# Altium footprint library VCB20.PcbLib: 5 footprints
Each footprint in its own frame and in the unit in brackets; x right, y up, seen from the top. Pads: shape width x height; smd on the part's side, far side on the other; paste and mask are expansions set on the pad; w line width, h text height; cw(c..) or ccw(c..) is an arc to the next point about the centre after c.
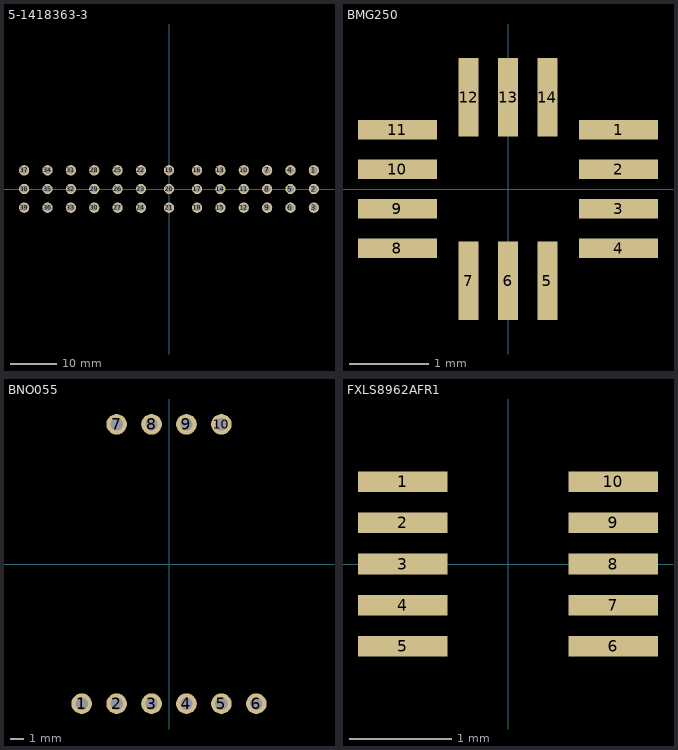
[diagram p0: the footprints below, top view; thin cyan lines are the x and y axes]

## 5-1418363-3 [mm] "Levyseal 90 degree 39 pin header"
pads (39):
  round 2.2 hole 1.5: 1(31,4) 2(31,0) 3(31,-4) 4(26,4) 5(26,0) 6(26,-4) 7(21,4) 8(21,0) 9(21,-4) 10(16,4) 11(16,0) 12(16,-4) 13(11,4) 14(11,0) 15(11,-4) 16(6,4) 17(6,0) 18(6,-4) 19(0,4) 20(0,0) 21(0,-4) 22(-6,4) 23(-6,0) 24(-6,-4) 25(-11,4) 26(-11,0) 27(-11,-4) 28(-16,4) 29(-16,0) 30(-16,-4) 31(-21,4) 32(-21,0) 33(-21,-4) 34(-26,4) 35(-26,0) 36(-26,-4) 37(-31,4) 38(-31,0) 39(-31,-4)
via -51.5,-4 diameter 4 hole 3.5
via 51.5,-4 diameter 4 hole 3.5
via -45,-4 diameter 3.5 hole 3
via 45,-4 diameter 3.5 hole 3
3D body "c-5-1418363-3-c-3d.stp": height 37, standoff -11, extent -66,-47.4 66,10.4

## BMG250 [mm] "Gyroscope, 3axis"
pads (14):
  rect 1x0.25 smd: 1(1.4,0.75) 2(1.4,0.25) 3(1.4,-0.25) 4(1.4,-0.75) 8(-1.4,-0.75) 9(-1.4,-0.25) 10(-1.4,0.25) 11(-1.4,0.75)
  rect 0.25x1 smd: 5(0.5,-1.162) 6(0,-1.162) 7(-0.5,-1.162) 12(-0.5,1.162) 13(0,1.162) 14(0.5,1.162)
3D body: height 0.9, standoff 0, extent -1.5,-1.25 1.5,1.25

## BNO055 [mm] "Adafruit Breakout"
pads (10):
  round 1.5 hole 0.9: 1(-6.35,-10.16) 2(-3.81,-10.16) 3(-1.27,-10.16) 4(1.27,-10.16) 5(3.81,-10.16) 6(6.35,-10.16) 7(-3.81,10.16) 8(-1.27,10.16) 9(1.27,10.16) 10(3.81,10.16)
3D body: height 5.08, standoff 2.54, extent -12.7,-11.43 12.7,11.43

## FXLS8962AFR1 [mm] "Accelerometer"
pads (10):
  rect 0.875x0.2 smd: 1(-1.025,0.8) 2(-1.025,0.4) 3(-1.025,0) 4(-1.025,-0.4) 5(-1.025,-0.8) 6(1.025,-0.8) 7(1.025,-0.4) 8(1.025,0) 9(1.025,0.4) 10(1.025,0.8)
3D body: height 1, standoff 0, extent -1,-1 1,1

## PCBComponent_1 [mm]